# Altium schematic symbol library SCH - POWER - LINEAR VREG - TI LM337LD.SchLib: 1 symbol
Pins are listed as number, name and electrical type; pins without a type are passive.

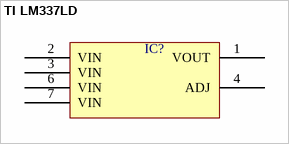
[diagram p0: symbol TI LM337LD]

## TI LM337LD
designator IC?  (value not drawn)
pins: 1 VOUT, 2 VIN, 3 VIN, 4 ADJ, 6 VIN, 7 VIN